# EAGLE library part LED-4-BETY-7-SEG(2X7P-30X14MM) (library Seeed-Display)
304080005
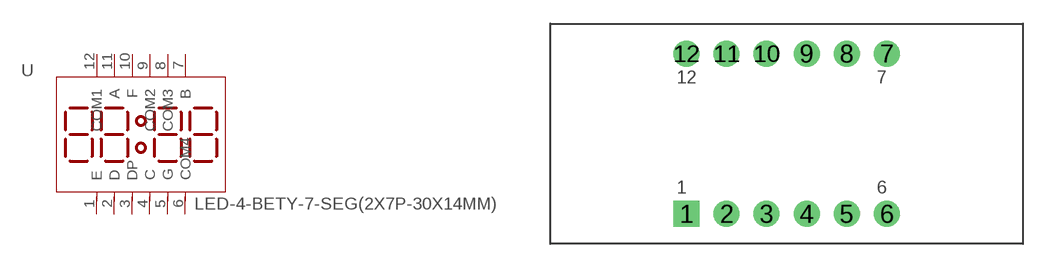
[diagram p0: symbol with the pads of LCD12-2.54-30.0X14.0X7.3MM; footprint LCD12-2.54-30.0X14.0X7.3MM]

Designator prefix U

## LED-4-BETY-7-SEG(2X7P-30X14MM) (MPN: SYD3642ASR; VALUE: SYD3642ASR)  [LCD12-2.54-30.0X14.0X7.3MM]
1  E
2  D
3  DP
4  C
5  G
6  COM4
7  B
8  COM3
9  COM2
10  F
11  A
12  COM1

## Footprint LCD12-2.54-30.0X14.0X7.3MM (pad centres in mm)
drill 0.889 pad 1.651 square: 1 -6.35,-5.08
drill 0.889 pad 1.651: 2 -3.81,-5.08; 3 -1.27,-5.08; 4 1.27,-5.08; 5 3.81,-5.08; 6 6.35,-5.08; 7 6.35,5.08; 8 3.81,5.08; 9 1.27,5.08; 10 -1.27,5.08; 11 -3.81,5.08; 12 -6.35,5.08